# EAGLE library part CH340B (library serial_interfaces)
Transceiver 2Mbps USB 2.0 SOP-16_150mil USB ICs ROHS
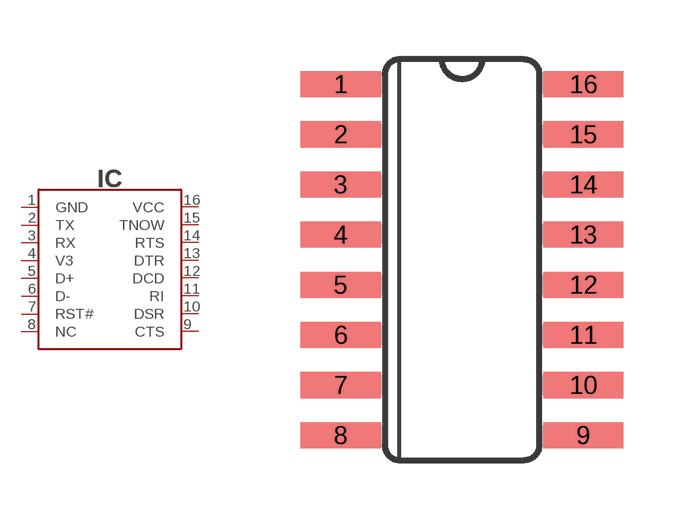
[diagram p30: symbol with the pads of SOIC16; footprint SOIC16]

Designator prefix IC

## CH340B (LCSC#: C81010; MANF: Jiangsu Qin Heng; MANF#: CH340B)  [SOIC16]
1  GND
2  TX
3  RX
4  V3
5  D+
6  D-
7  RST#
8  NC
9  CTS
10  DSR
11  RI
12  DCD
13  DTR
14  RTS
15  TNOW
16  VCC

## Footprint SOIC16 (pad centres in mm)
3D model <http://grabcad.com/library/106x-soic-packages-small-outline-integrated-circuit-1/details?folder_id=13776991>
smd 2.032 x 0.66: 1 -3.073,4.445; 2 -3.073,3.175; 3 -3.073,1.905; 4 -3.073,0.635; 5 -3.073,-0.635; 6 -3.073,-1.905; 7 -3.073,-3.175; 8 -3.073,-4.445; 9 3.073,-4.445; 10 3.073,-3.175; 11 3.073,-1.905; 12 3.073,-0.635; 13 3.073,0.635; 14 3.073,1.905; 15 3.073,3.175; 16 3.073,4.445